# EAGLE library part LTC1445 (library ARVP_Linear_Technology)
Designed by Xiaochuan Chen on Feb. 19, 2013
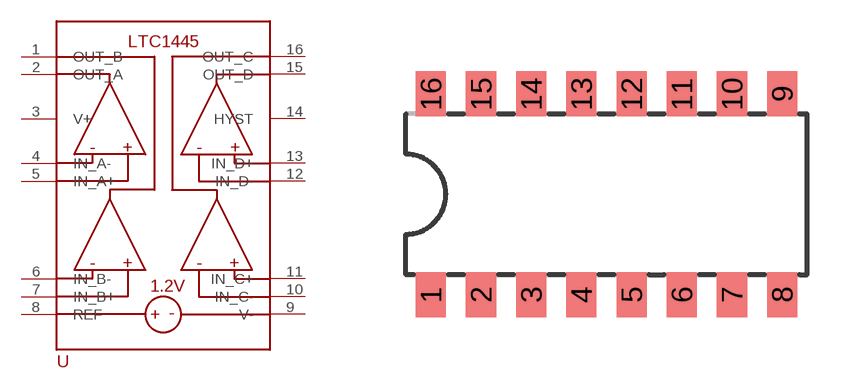
[diagram p2: symbol with the pads of SO-16; footprint SO-16]

Designator prefix -

## LTC1445  [SO-16]
1  OUT_B  out
2  OUT_A  out
3  V+  pwr
4  IN_A-  in
5  IN_A+  in
6  IN_B-  in
7  IN_B+  in
8  REF  out
9  V-  sup
10  IN_C-  in
11  IN_C+  in
12  IN_D-  in
13  IN_D+  in
14  HYST  in
15  OUT_D  out
16  OUT_C  out

## Footprint SO-16 (pad centres in mm)
16-Lead SOIC (R) Package Source: http://www.analog.com/static/imported-files/data_sheets/AD745.pdf
smd 0.762 x 1.143: 1 -4.445,-2.54; 2 -3.175,-2.54; 3 -1.905,-2.54; 4 -0.635,-2.54; 5 0.635,-2.54; 6 1.905,-2.54; 7 3.175,-2.54; 8 4.445,-2.54; 9 4.445,2.54; 10 3.175,2.54; 11 1.905,2.54; 12 0.635,2.54; 13 -0.635,2.54; 14 -1.905,2.54; 15 -3.175,2.54; 16 -4.445,2.54